# EAGLE library part PIN_3X10 (library pinhead_3row)
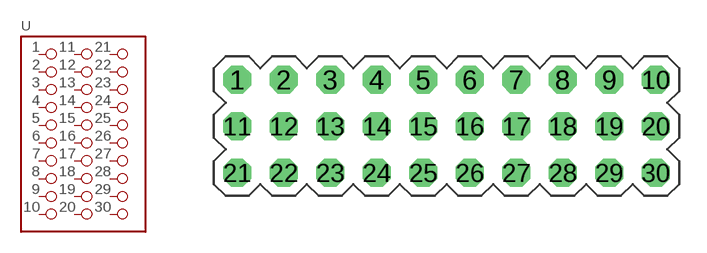
[diagram p4: symbol with the pads of PIN_3X10; footprint PIN_3X10]

Designator prefix -

## PIN_3X10  [PIN_3X10]
1  1
2  2
3  3
4  4
5  5
6  6
7  7
8  8
9  9
10  10
11  11
12  12
13  13
14  14
15  15
16  16
17  17
18  18
19  19
20  20
21  21
22  22
23  23
24  24
25  25
26  26
27  27
28  28
29  29
30  30

## Footprint PIN_3X10 (pad centres in mm)
drill 1.016 octagon: 1 1.27,-1.27; 2 3.81,-1.27; 3 6.35,-1.27; 4 8.89,-1.27; 5 11.43,-1.27; 6 13.97,-1.27; 7 16.51,-1.27; 8 19.05,-1.27; 9 21.59,-1.27; 10 24.13,-1.27; 11 1.27,-3.81; 12 3.81,-3.81; 13 6.35,-3.81; 14 8.89,-3.81; 15 11.43,-3.81; 16 13.97,-3.81; 17 16.51,-3.81; 18 19.05,-3.81; 19 21.59,-3.81; 20 24.13,-3.81; 21 1.27,-6.35; 22 3.81,-6.35; 23 6.35,-6.35; 24 8.89,-6.35; 25 11.43,-6.35; 26 13.97,-6.35; 27 16.51,-6.35; 28 19.05,-6.35; 29 21.59,-6.35; 30 24.13,-6.35